# EAGLE library part RFD77101 (library RFDigital)
Simblee ™ BLE Module RFD77101 © 2015 RF Digital Corporation www.RFDigital.com www.Simblee.com PATENTS PENDING 04.01.2015
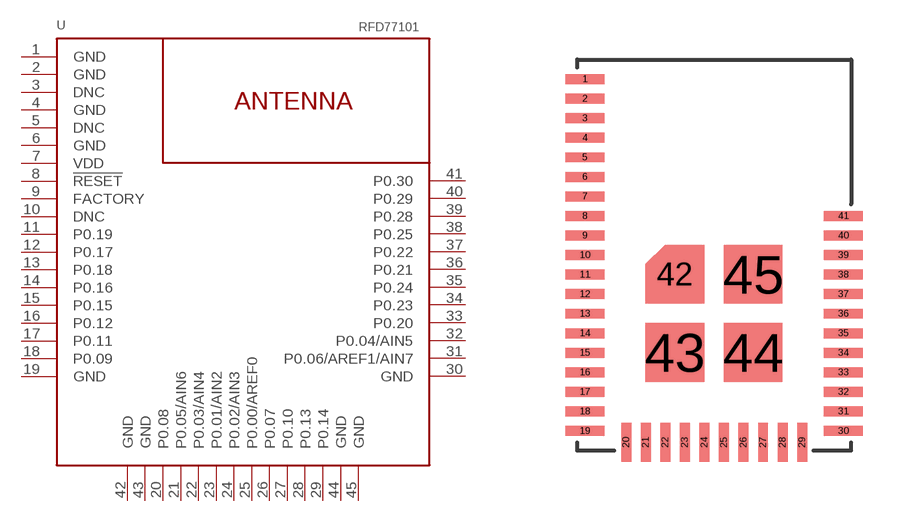
[diagram p0: symbol with the pads of RFD77101; footprint RFD77101]

Designator prefix -

## RFD77101  [RFD77101]
1  GND  pwr
2  GND  pwr
3  DNC  nc
4  GND  pwr
5  DNC  nc
6  GND  pwr
7  VDD  pwr
8  !RESET!  in
9  FACTORY  nc
10  DNC  nc
11  P0.19
12  P0.17
13  P0.18
14  P0.16
15  P0.15
16  P0.12
17  P0.11
18  P0.09
19  GND  pwr
20  P0.08
21  P0.05/AIN6
22  P0.03/AIN4
23  P0.01/AIN2
24  P0.02/AIN3
25  P0.00/AREF0
26  P0.07
27  P0.10
28  P0.13
29  P0.14
30  GND  pwr
31  P0.06/AREF1/AIN7
32  P0.04/AIN5
33  P0.20
34  P0.23
35  P0.24
36  P0.21
37  P0.22
38  P0.25
39  P0.28
40  P0.29
41  P0.30
42  GND  pwr
43  GND  pwr
44  GND  pwr
45  GND  pwr

## Footprint RFD77101 (pad centres in mm)
Simblee ™ BLE Module RFD77101 © 2015 RF Digital Corporation www.RFDigital.com www.Simblee.com PATENTS PENDING 04.01.2015
smd 1 x 0.254: 1 0,0; 2 0,-0.5; 3 0,-1; 4 0,-1.5; 5 0,-2; 6 0,-2.5; 7 0,-3; 8 0,-3.5; 9 0,-4; 10 0,-4.5; 11 0,-5; 12 0,-5.5; 13 0,-6; 14 0,-6.5; 15 0,-7; 16 0,-7.5; 17 0,-8; 18 0,-8.5; 19 0,-9; 30 6.61,-9; 31 6.61,-8.5; 32 6.61,-8; 33 6.61,-7.5; 34 6.61,-7; 35 6.61,-6.5; 36 6.61,-6; 37 6.61,-5.5; 38 6.61,-5; 39 6.61,-4.5; 40 6.61,-4; 41 6.61,-3.5
smd 0.254 x 1: 20 1.055,-9.29; 21 1.555,-9.29; 22 2.055,-9.29; 23 2.555,-9.29; 24 3.055,-9.29; 25 3.555,-9.29; 26 4.055,-9.29; 27 4.555,-9.29; 28 5.055,-9.29; 29 5.555,-9.29
smd 0.9 x 0.9: 42 2.3,-4.99
smd 1.5 x 1.5: 43 2.3,-6.99; 44 4.3,-6.99; 45 4.3,-4.99